# EAGLE library part LFXP3C_XXP208 (library lattice)
lfxp3c_pqfp208 edit this description Auto generated by make-symbol-device-package-bsdl.ulp Rev. 20 Source: lfxp3c_pqfp208.bsm
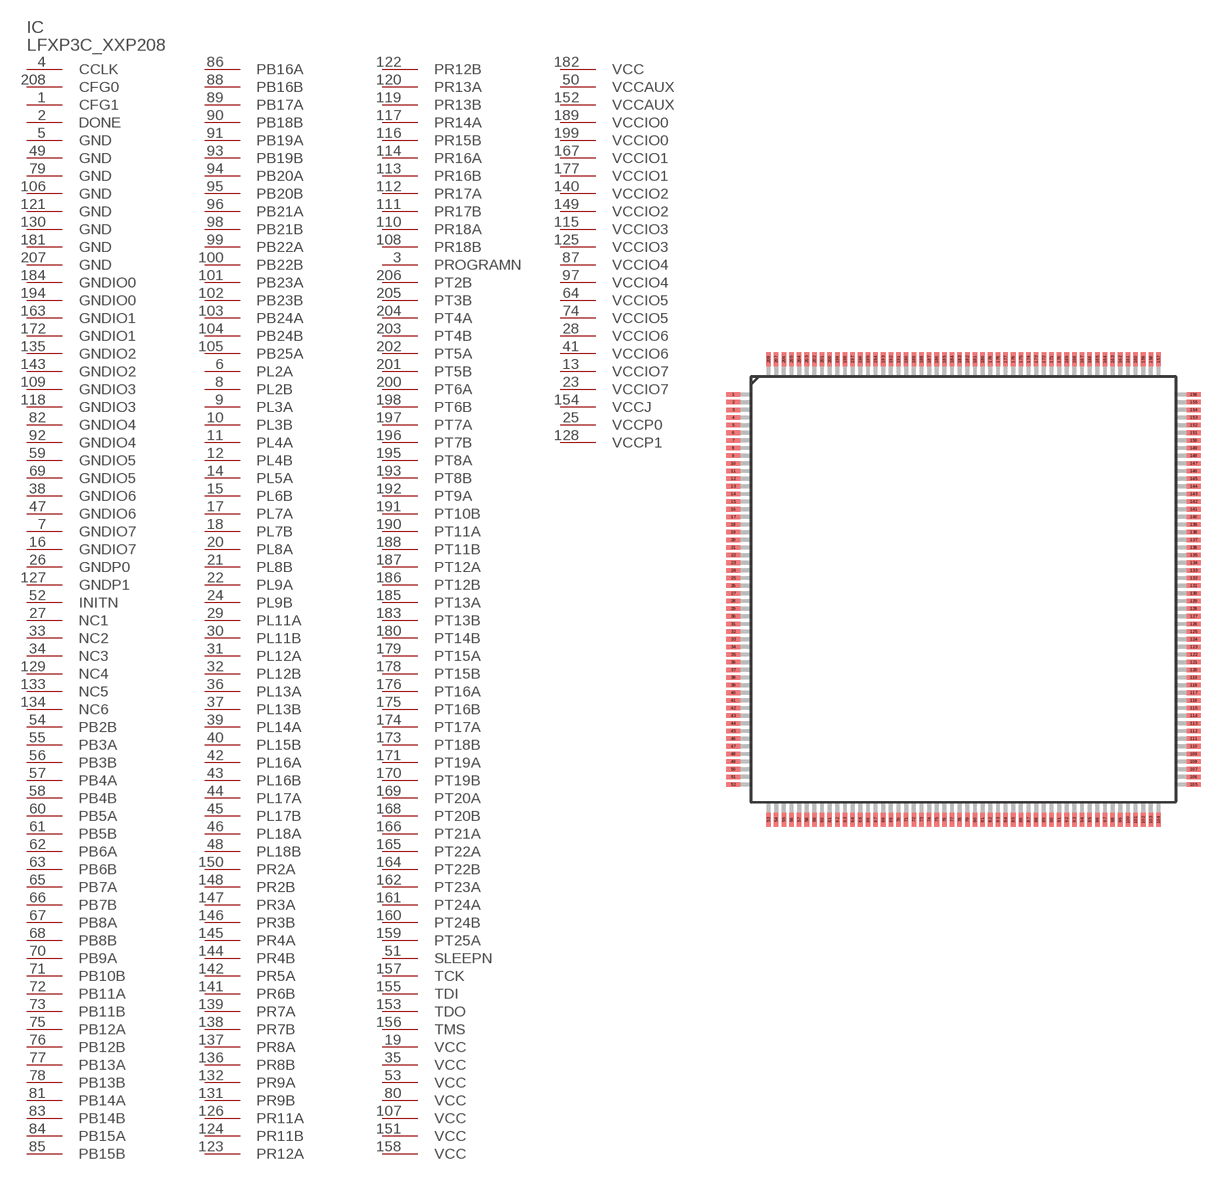
[diagram p28: symbol with the pads of PQFP_208; footprint PQFP_208]

Designator prefix IC

## LFXP3C_XXP208  [PQFP_208]
1  CFG1  in
2  DONE
3  PROGRAMN  in
4  CCLK
5  GND  pwr
6  PL2A
7  GNDIO7  pwr
8  PL2B
9  PL3A
10  PL3B
11  PL4A
12  PL4B
13  VCCIO7  pwr
14  PL5A
15  PL6B
16  GNDIO7  pwr
17  PL7A
18  PL7B
19  VCC  pwr
20  PL8A
21  PL8B
22  PL9A
23  VCCIO7  pwr
24  PL9B
25  VCCP0  pwr
26  GNDP0  pwr
27  NC1  pas
28  VCCIO6  pwr
29  PL11A
30  PL11B
31  PL12A
32  PL12B
33  NC2  pas
34  NC3  pas
35  VCC  pwr
36  PL13A
37  PL13B
38  GNDIO6  pwr
39  PL14A
40  PL15B
41  VCCIO6  pwr
42  PL16A
43  PL16B
44  PL17A
45  PL17B
46  PL18A
47  GNDIO6  pwr
48  PL18B
49  GND  pwr
50  VCCAUX  pwr
51  SLEEPN  in
52  INITN
53  VCC  pwr
54  PB2B
55  PB3A
56  PB3B
57  PB4A
58  PB4B
59  GNDIO5  pwr
60  PB5A
61  PB5B
62  PB6A
63  PB6B
64  VCCIO5  pwr
65  PB7A
66  PB7B
67  PB8A
68  PB8B
69  GNDIO5  pwr
70  PB9A
71  PB10B
72  PB11A
73  PB11B
74  VCCIO5  pwr
75  PB12A
76  PB12B
77  PB13A
78  PB13B
79  GND  pwr
80  VCC  pwr
81  PB14A
82  GNDIO4  pwr
83  PB14B
84  PB15A
85  PB15B
86  PB16A
87  VCCIO4  pwr
88  PB16B
89  PB17A
90  PB18B
91  PB19A
92  GNDIO4  pwr
93  PB19B
94  PB20A
95  PB20B
96  PB21A
97  VCCIO4  pwr
98  PB21B
99  PB22A
100  PB22B
101  PB23A
102  PB23B
103  PB24A
104  PB24B
105  PB25A
106  GND  pwr
107  VCC  pwr
108  PR18B
109  GNDIO3  pwr
110  PR18A
111  PR17B
112  PR17A
113  PR16B
114  PR16A
115  VCCIO3  pwr
116  PR15B
117  PR14A
118  GNDIO3  pwr
119  PR13B
120  PR13A
121  GND  pwr
122  PR12B
123  PR12A
124  PR11B
125  VCCIO3  pwr
126  PR11A
127  GNDP1  pwr
128  VCCP1  pwr
129  NC4  pas
130  GND  pwr
131  PR9B
132  PR9A
133  NC5  pas
134  NC6  pas
135  GNDIO2  pwr
136  PR8B
137  PR8A
138  PR7B
139  PR7A
140  VCCIO2  pwr
141  PR6B
142  PR5A
143  GNDIO2  pwr
144  PR4B
145  PR4A
146  PR3B
147  PR3A
148  PR2B
149  VCCIO2  pwr
150  PR2A
151  VCC  pwr
152  VCCAUX  pwr
153  TDO  out
154  VCCJ  pwr
155  TDI  in
156  TMS  in
157  TCK  in
158  VCC  pwr
159  PT25A
160  PT24B
161  PT24A
162  PT23A
163  GNDIO1  pwr
164  PT22B
165  PT22A
166  PT21A
167  VCCIO1  pwr
168  PT20B
169  PT20A
170  PT19B
171  PT19A
172  GNDIO1  pwr
173  PT18B
174  PT17A
175  PT16B
176  PT16A
177  VCCIO1  pwr
178  PT15B
179  PT15A
180  PT14B
181  GND  pwr
182  VCC  pwr
183  PT13B
184  GNDIO0  pwr
185  PT13A
186  PT12B
187  PT12A
188  PT11B
189  VCCIO0  pwr
190  PT11A
191  PT10B
192  PT9A
193  PT8B
194  GNDIO0  pwr
195  PT8A
196  PT7B
197  PT7A
198  PT6B
199  VCCIO0  pwr
200  PT6A
201  PT5B
202  PT5A
203  PT4B
204  PT4A
205  PT3B
206  PT2B
207  GND  pwr
208  CFG0  in

## Footprint PQFP_208 (pad centres in mm)
PQFP_208 Auto generated by make-symbol-device-package-bsdl.ulp Rev. 19 Source: http://www.latticesemi.com/lit/docs/package/pkg.pdf
smd 0.9 x 0.3: 1 -15.05,12.75; 2 -15.05,12.25; 3 -15.05,11.75; 4 -15.05,11.25; 5 -15.05,10.75; 6 -15.05,10.25; 7 -15.05,9.75; 8 -15.05,9.25; 9 -15.05,8.75; 10 -15.05,8.25; 11 -15.05,7.75; 12 -15.05,7.25; 13 -15.05,6.75; 14 -15.05,6.25; 15 -15.05,5.75; 16 -15.05,5.25; 17 -15.05,4.75; 18 -15.05,4.25; 19 -15.05,3.75; 20 -15.05,3.25; 21 -15.05,2.75; 22 -15.05,2.25; 23 -15.05,1.75; 24 -15.05,1.25; 25 -15.05,0.75; 26 -15.05,0.25; 27 -15.05,-0.25; 28 -15.05,-0.75; 29 -15.05,-1.25; 30 -15.05,-1.75; 31 -15.05,-2.25; 32 -15.05,-2.75; 33 -15.05,-3.25; 34 -15.05,-3.75; 35 -15.05,-4.25; 36 -15.05,-4.75; 37 -15.05,-5.25; 38 -15.05,-5.75; 39 -15.05,-6.25; 40 -15.05,-6.75; 41 -15.05,-7.25; 42 -15.05,-7.75; 43 -15.05,-8.25; 44 -15.05,-8.75; 45 -15.05,-9.25; 46 -15.05,-9.75; 47 -15.05,-10.25; 48 -15.05,-10.75; 49 -15.05,-11.25; 50 -15.05,-11.75; 51 -15.05,-12.25; 52 -15.05,-12.75; 105 15.05,-12.75; 106 15.05,-12.25; 107 15.05,-11.75; 108 15.05,-11.25; 109 15.05,-10.75; 110 15.05,-10.25; 111 15.05,-9.75; 112 15.05,-9.25; 113 15.05,-8.75; 114 15.05,-8.25; 115 15.05,-7.75; 116 15.05,-7.25; 117 15.05,-6.75; 118 15.05,-6.25; 119 15.05,-5.75; 120 15.05,-5.25; 121 15.05,-4.75; 122 15.05,-4.25; 123 15.05,-3.75; 124 15.05,-3.25; 125 15.05,-2.75; 126 15.05,-2.25; 127 15.05,-1.75; 128 15.05,-1.25; 129 15.05,-0.75; 130 15.05,-0.25; 131 15.05,0.25; 132 15.05,0.75; 133 15.05,1.25; 134 15.05,1.75; 135 15.05,2.25; 136 15.05,2.75; 137 15.05,3.25; 138 15.05,3.75; 139 15.05,4.25; 140 15.05,4.75; 141 15.05,5.25; 142 15.05,5.75; 143 15.05,6.25; 144 15.05,6.75; 145 15.05,7.25; 146 15.05,7.75; 147 15.05,8.25; 148 15.05,8.75; 149 15.05,9.25; 150 15.05,9.75; 151 15.05,10.25; 152 15.05,10.75; 153 15.05,11.25; 154 15.05,11.75; 155 15.05,12.25; 156 15.05,12.75
smd 0.3 x 0.9: 53 -12.75,-15.05; 54 -12.25,-15.05; 55 -11.75,-15.05; 56 -11.25,-15.05; 57 -10.75,-15.05; 58 -10.25,-15.05; 59 -9.75,-15.05; 60 -9.25,-15.05; 61 -8.75,-15.05; 62 -8.25,-15.05; 63 -7.75,-15.05; 64 -7.25,-15.05; 65 -6.75,-15.05; 66 -6.25,-15.05; 67 -5.75,-15.05; 68 -5.25,-15.05; 69 -4.75,-15.05; 70 -4.25,-15.05; 71 -3.75,-15.05; 72 -3.25,-15.05; 73 -2.75,-15.05; 74 -2.25,-15.05; 75 -1.75,-15.05; 76 -1.25,-15.05; 77 -0.75,-15.05; 78 -0.25,-15.05; 79 0.25,-15.05; 80 0.75,-15.05; 81 1.25,-15.05; 82 1.75,-15.05; 83 2.25,-15.05; 84 2.75,-15.05; 85 3.25,-15.05; 86 3.75,-15.05; 87 4.25,-15.05; 88 4.75,-15.05; 89 5.25,-15.05; 90 5.75,-15.05; 91 6.25,-15.05; 92 6.75,-15.05; 93 7.25,-15.05; 94 7.75,-15.05; 95 8.25,-15.05; 96 8.75,-15.05; 97 9.25,-15.05; 98 9.75,-15.05; 99 10.25,-15.05; 100 10.75,-15.05; 101 11.25,-15.05; 102 11.75,-15.05; 103 12.25,-15.05; 104 12.75,-15.05; 157 12.75,15.05; 158 12.25,15.05; 159 11.75,15.05; 160 11.25,15.05; 161 10.75,15.05; 162 10.25,15.05; 163 9.75,15.05; 164 9.25,15.05; 165 8.75,15.05; 166 8.25,15.05; 167 7.75,15.05; 168 7.25,15.05; 169 6.75,15.05; 170 6.25,15.05; 171 5.75,15.05; 172 5.25,15.05; 173 4.75,15.05; 174 4.25,15.05; 175 3.75,15.05; 176 3.25,15.05; 177 2.75,15.05; 178 2.25,15.05; 179 1.75,15.05; 180 1.25,15.05; 181 0.75,15.05; 182 0.25,15.05; 183 -0.25,15.05; 184 -0.75,15.05; 185 -1.25,15.05; 186 -1.75,15.05; 187 -2.25,15.05; 188 -2.75,15.05; 189 -3.25,15.05; 190 -3.75,15.05; 191 -4.25,15.05; 192 -4.75,15.05; 193 -5.25,15.05; 194 -5.75,15.05; 195 -6.25,15.05; 196 -6.75,15.05; 197 -7.25,15.05; 198 -7.75,15.05; 199 -8.25,15.05; 200 -8.75,15.05; 201 -9.25,15.05; 202 -9.75,15.05; 203 -10.25,15.05; 204 -10.75,15.05; 205 -11.25,15.05; 206 -11.75,15.05; 207 -12.25,15.05; 208 -12.75,15.05